# Altium schematic symbol library 687 1xx 149 022.SchLib: 22 symbols
Pins are listed as number, name and electrical type; pins without a type are passive.

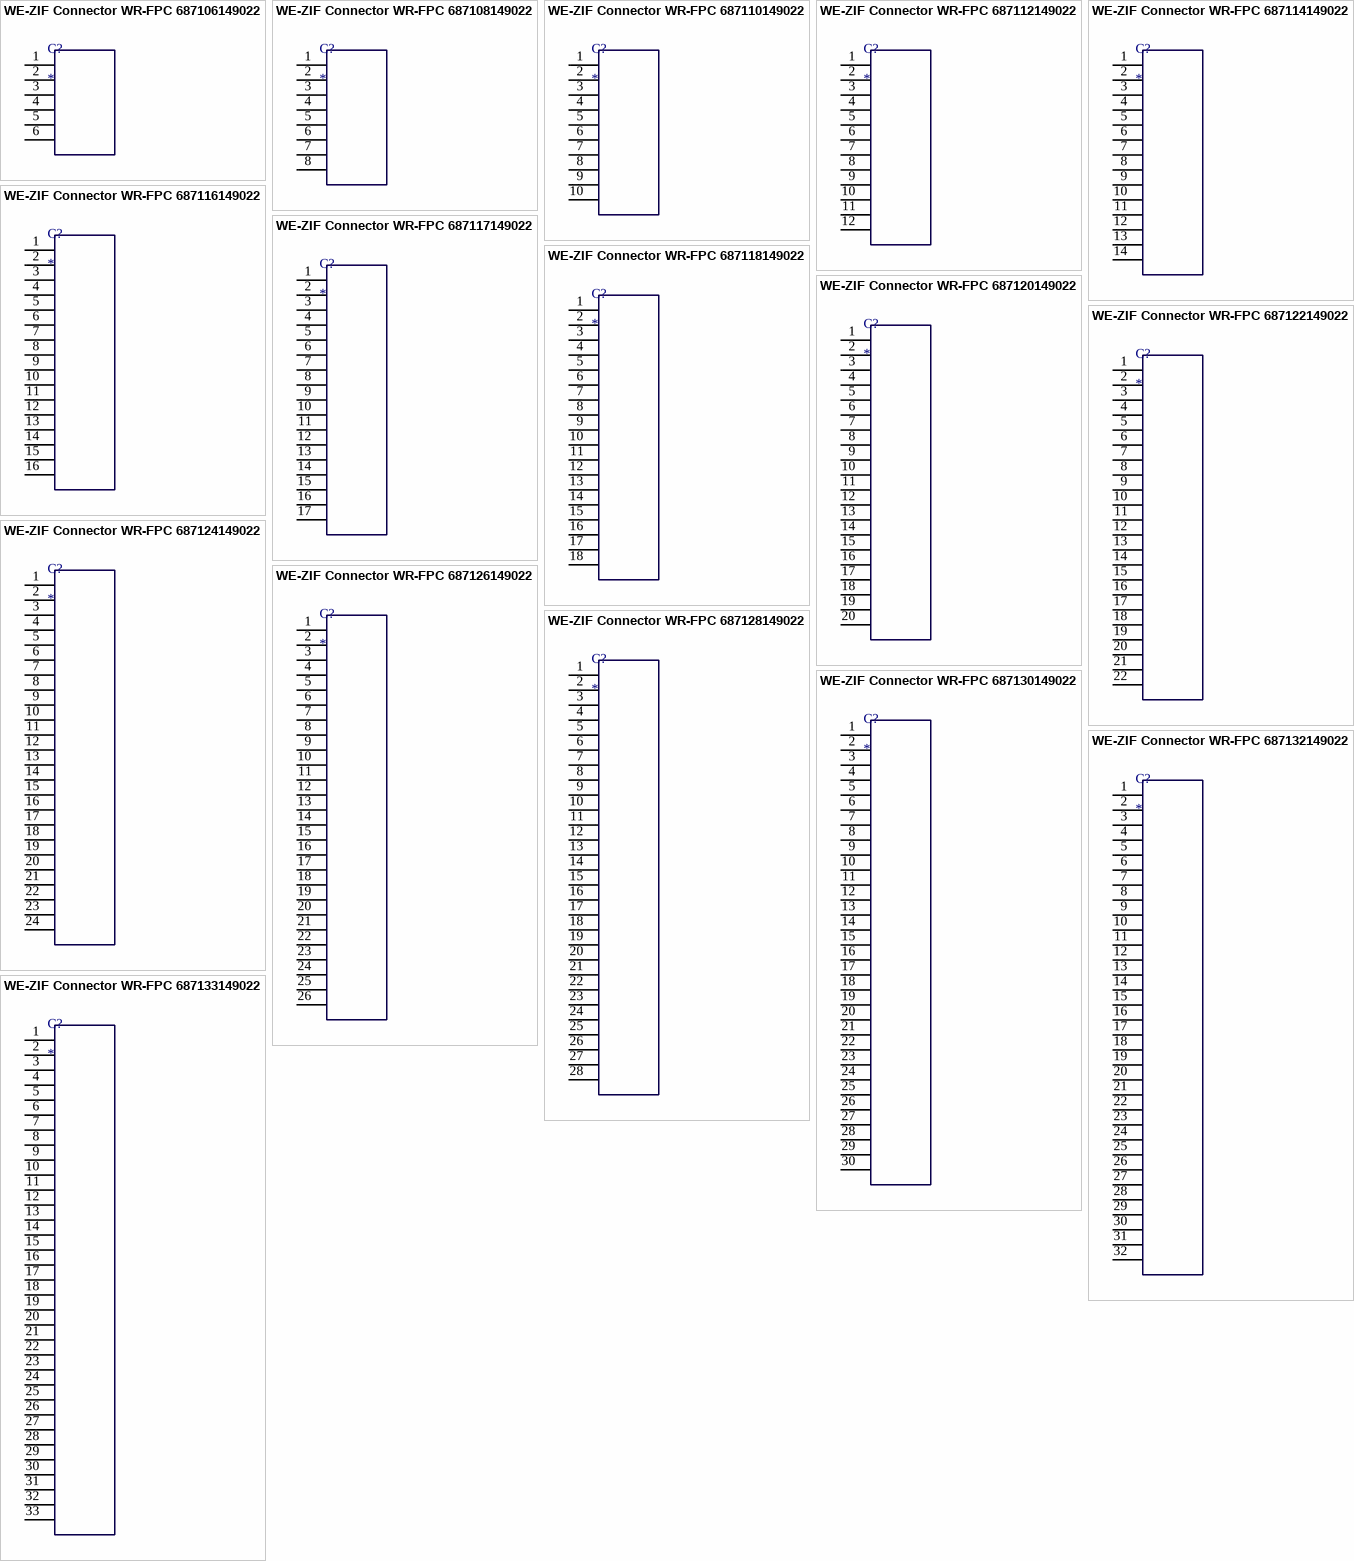
[diagram p0: symbols WE-ZIF Connector WR-FPC 687106149022 to WE-ZIF Connector WR-FPC 687133149022]

## WE-ZIF Connector WR-FPC 687106149022
designator C?
WR-FPC 0.50mm SMT Horiz. Bot. Contact Hinge type; Manufacturer: Würth Elektronik eiSos GmbH; partNo: 687106149022; ComponentLink1 Description: Manufacturer; ComponentLink2 Description: Datasheet; ComponentLink1URL: http://www.we-online.de; ComponentLink2URL: http://katalog.we-online.de/em/datasheet/6871xx149022.pdf; Created by: Karrer Zheng; Created Date: 10/9/2014
footprint 687106149022 (WR-FPC 0.50mm SMT Horiz. Bot. Contact Hinge type WR-FPC 0.50mm 6pins Hinge type SMT Horizontal Bottom Contact)
pins: 1  , 2  , 3  , 4  , 5  , 6  

## WE-ZIF Connector WR-FPC 687108149022
designator C?
WR-FPC 0.50mm SMT Horiz. Bot. Contact Hinge type; Manufacturer: Würth Elektronik eiSos GmbH; partNo: 687108149022; ComponentLink1 Description: Manufacturer; ComponentLink2 Description: Datasheet; ComponentLink1URL: http://www.we-online.de; ComponentLink2URL: http://katalog.we-online.de/em/datasheet/6871xx149022.pdf; Created by: Karrer Zheng; Created Date: 10/9/2014
footprint 687108149022
pins: 1  , 2  , 3  , 4  , 5  , 6  , 7  , 8  

## WE-ZIF Connector WR-FPC 687110149022
designator C?
WR-FPC 0.50mm SMT Horiz. Bot. Contact Hinge type; Manufacturer: Würth Elektronik eiSos GmbH; partNo: 687110149022; ComponentLink1 Description: Manufacturer; ComponentLink2 Description: Datasheet; ComponentLink1URL: http://www.we-online.de; ComponentLink2URL: http://katalog.we-online.de/em/datasheet/6871xx149022.pdf; Created by: Karrer Zheng; Created Date: 10/9/2014
footprint 687110149022
pins: 1  , 2  , 3  , 4  , 5  , 6  , 7  , 8  , 9  , 10  

## WE-ZIF Connector WR-FPC 687112149022
designator C?
WR-FPC 0.50mm SMT Horiz. Bot. Contact Hinge type; Manufacturer: Würth Elektronik eiSos GmbH; partNo: 687112149022; ComponentLink1 Description: Manufacturer; ComponentLink2 Description: Datasheet; ComponentLink1URL: http://www.we-online.de; ComponentLink2URL: http://katalog.we-online.de/em/datasheet/6871xx149022.pdf; Created by: Karrer Zheng; Created Date: 10/9/2014
footprint 687112149022
pins: 1  , 2  , 3  , 4  , 5  , 6  , 7  , 8  , 9  , 10  , 11  , 12  

## WE-ZIF Connector WR-FPC 687114149022
designator C?
WR-FPC 0.50mm SMT Horiz. Bot. Contact Hinge type; Manufacturer: Würth Elektronik eiSos GmbH; partNo: 687114149022; ComponentLink1 Description: Manufacturer; ComponentLink2 Description: Datasheet; ComponentLink1URL: http://www.we-online.de; ComponentLink2URL: http://katalog.we-online.de/em/datasheet/6871xx149022.pdf; Created by: Karrer Zheng; Created Date: 10/9/2014
footprint 687114149022
pins: 1  , 2  , 3  , 4  , 5  , 6  , 7  , 8  , 9  , 10  , 11  , 12  , 13  , 14  

## WE-ZIF Connector WR-FPC 687116149022
designator C?
WR-FPC 0.50mm SMT Horiz. Bot. Contact Hinge type; Manufacturer: Würth Elektronik eiSos GmbH; partNo: 687116149022; ComponentLink1 Description: Manufacturer; ComponentLink2 Description: Datasheet; ComponentLink1URL: http://www.we-online.de; ComponentLink2URL: http://katalog.we-online.de/em/datasheet/6871xx149022.pdf; Created by: Karrer Zheng; Created Date: 10/9/2014
footprint 687116149022
pins: 1  , 2  , 3  , 4  , 5  , 6  , 7  , 8  , 9  , 10  , 11  , 12  , 13  , 14  , 15  , 16  

## WE-ZIF Connector WR-FPC 687117149022
designator C?
WR-FPC 0.50mm SMT Horiz. Bot. Contact Hinge type; Manufacturer: Würth Elektronik eiSos GmbH; partNo: 687117149022; ComponentLink1 Description: Manufacturer; ComponentLink2 Description: Datasheet; ComponentLink1URL: http://www.we-online.de; ComponentLink2URL: http://katalog.we-online.de/em/datasheet/6871xx149022.pdf; Created by: Karrer Zheng; Created Date: 10/9/2014
footprint 687117149022
pins: 1  , 2  , 3  , 4  , 5  , 6  , 7  , 8  , 9  , 10  , 11  , 12  , 13  , 14  , 15  , 16  , 17  

## WE-ZIF Connector WR-FPC 687118149022
designator C?
WR-FPC 0.50mm SMT Horiz. Bot. Contact Hinge type; Manufacturer: Würth Elektronik eiSos GmbH; partNo: 687118149022; ComponentLink1 Description: Manufacturer; ComponentLink2 Description: Datasheet; ComponentLink1URL: http://www.we-online.de; ComponentLink2URL: http://katalog.we-online.de/em/datasheet/6871xx149022.pdf; Created by: Karrer Zheng; Created Date: 10/9/2014
footprint 687118149022
pins: 1  , 2  , 3  , 4  , 5  , 6  , 7  , 8  , 9  , 10  , 11  , 12  , 13  , 14  , 15  , 16  , 17  , 18  

## WE-ZIF Connector WR-FPC 687120149022
designator C?
WR-FPC 0.50mm SMT Horiz. Bot. Contact Hinge type; Manufacturer: Würth Elektronik eiSos GmbH; partNo: 687120149022; ComponentLink1 Description: Manufacturer; ComponentLink2 Description: Datasheet; ComponentLink1URL: http://www.we-online.de; ComponentLink2URL: http://katalog.we-online.de/em/datasheet/6871xx149022.pdf; Created by: Karrer Zheng; Created Date: 10/9/2014
footprint 687120149022
pins: 1  , 2  , 3  , 4  , 5  , 6  , 7  , 8  , 9  , 10  , 11  , 12  , 13  , 14  , 15  , 16  , 17  , 18  , 19  , 20  

## WE-ZIF Connector WR-FPC 687122149022
designator C?
WR-FPC 0.50mm SMT Horiz. Bot. Contact Hinge type; Manufacturer: Würth Elektronik eiSos GmbH; partNo: 687122149022; ComponentLink1 Description: Manufacturer; ComponentLink2 Description: Datasheet; ComponentLink1URL: http://www.we-online.de; ComponentLink2URL: http://katalog.we-online.de/em/datasheet/6871xx149022.pdf; Created by: Karrer Zheng; Created Date: 10/9/2014
footprint 687122149022
pins: 1  , 2  , 3  , 4  , 5  , 6  , 7  , 8  , 9  , 10  , 11  , 12  , 13  , 14  , 15  , 16  , 17  , 18  , 19  , 20  , 21  , 22  

## WE-ZIF Connector WR-FPC 687124149022
designator C?
WR-FPC 0.50mm SMT Horiz. Bot. Contact Hinge type; Manufacturer: Würth Elektronik eiSos GmbH; partNo: 687124149022; ComponentLink1 Description: Manufacturer; ComponentLink2 Description: Datasheet; ComponentLink1URL: http://www.we-online.de; ComponentLink2URL: http://katalog.we-online.de/em/datasheet/6871xx149022.pdf; Created by: Karrer Zheng; Created Date: 10/9/2014
footprint 687124149022
pins: 1  , 2  , 3  , 4  , 5  , 6  , 7  , 8  , 9  , 10  , 11  , 12  , 13  , 14  , 15  , 16  , 17  , 18  , 19  , 20  , 21  , 22  , 23  , 24  

## WE-ZIF Connector WR-FPC 687126149022
designator C?
WR-FPC 0.50mm SMT Horiz. Bot. Contact Hinge type; Manufacturer: Würth Elektronik eiSos GmbH; partNo: 687126149022; ComponentLink1 Description: Manufacturer; ComponentLink2 Description: Datasheet; ComponentLink1URL: http://www.we-online.de; ComponentLink2URL: http://katalog.we-online.de/em/datasheet/6871xx149022.pdf; Created by: Karrer Zheng; Created Date: 10/9/2014
footprint 687126149022
pins: 1  , 2  , 3  , 4  , 5  , 6  , 7  , 8  , 9  , 10  , 11  , 12  , 13  , 14  , 15  , 16  , 17  , 18  , 19  , 20  , 21  , 22  , 23  , 24  , 25  , 26  

## WE-ZIF Connector WR-FPC 687128149022
designator C?
WR-FPC 0.50mm SMT Horiz. Bot. Contact Hinge type; Manufacturer: Würth Elektronik eiSos GmbH; partNo: 687128149022; ComponentLink1 Description: Manufacturer; ComponentLink2 Description: Datasheet; ComponentLink1URL: http://www.we-online.de; ComponentLink2URL: http://katalog.we-online.de/em/datasheet/6871xx149022.pdf; Created by: Karrer Zheng; Created Date: 10/9/2014
footprint 687128149022
pins: 1  , 2  , 3  , 4  , 5  , 6  , 7  , 8  , 9  , 10  , 11  , 12  , 13  , 14  , 15  , 16  , 17  , 18  , 19  , 20  , 21  , 22  , 23  , 24  , 25  , 26  , 27  , 28  

## WE-ZIF Connector WR-FPC 687130149022
designator C?
WR-FPC 0.50mm SMT Horiz. Bot. Contact Hinge type; Manufacturer: Würth Elektronik eiSos GmbH; partNo: 687130149022; ComponentLink1 Description: Manufacturer; ComponentLink2 Description: Datasheet; ComponentLink1URL: http://www.we-online.de; ComponentLink2URL: http://katalog.we-online.de/em/datasheet/6871xx149022.pdf; Created by: Karrer Zheng; Created Date: 10/9/2014
footprint 687130149022
pins: 1  , 2  , 3  , 4  , 5  , 6  , 7  , 8  , 9  , 10  , 11  , 12  , 13  , 14  , 15  , 16  , 17  , 18  , 19  , 20  , 21  , 22  , 23  , 24  , 25  , 26  , 27  , 28  , 29  , 30  

## WE-ZIF Connector WR-FPC 687132149022
designator C?
WR-FPC 0.50mm SMT Horiz. Bot. Contact Hinge type; Manufacturer: Würth Elektronik eiSos GmbH; partNo: 687132149022; ComponentLink1 Description: Manufacturer; ComponentLink2 Description: Datasheet; ComponentLink1URL: http://www.we-online.de; ComponentLink2URL: http://katalog.we-online.de/em/datasheet/6871xx149022.pdf; Created by: Karrer Zheng; Created Date: 10/9/2014
footprint 687132149022
pins: 1  , 2  , 3  , 4  , 5  , 6  , 7  , 8  , 9  , 10  , 11  , 12  , 13  , 14  , 15  , 16  , 17  , 18  , 19  , 20  , 21  , 22  , 23  , 24  , 25  , 26  , 27  , 28  , 29  , 30  , 31  , 32  

## WE-ZIF Connector WR-FPC 687133149022
designator C?
WR-FPC 0.50mm SMT Horiz. Bot. Contact Hinge type; Manufacturer: Würth Elektronik eiSos GmbH; partNo: 687133149022; ComponentLink1 Description: Manufacturer; ComponentLink2 Description: Datasheet; ComponentLink1URL: http://www.we-online.de; ComponentLink2URL: http://katalog.we-online.de/em/datasheet/6871xx149022.pdf; Created by: Karrer Zheng; Created Date: 10/9/2014
footprint 687133149022
pins: 1  , 2  , 3  , 4  , 5  , 6  , 7  , 8  , 9  , 10  , 11  , 12  , 13  , 14  , 15  , 16  , 17  , 18  , 19  , 20  , 21  , 22  , 23  , 24  , 25  , 26  , 27  , 28  , 29  , 30  , 31  , 32  , 33  

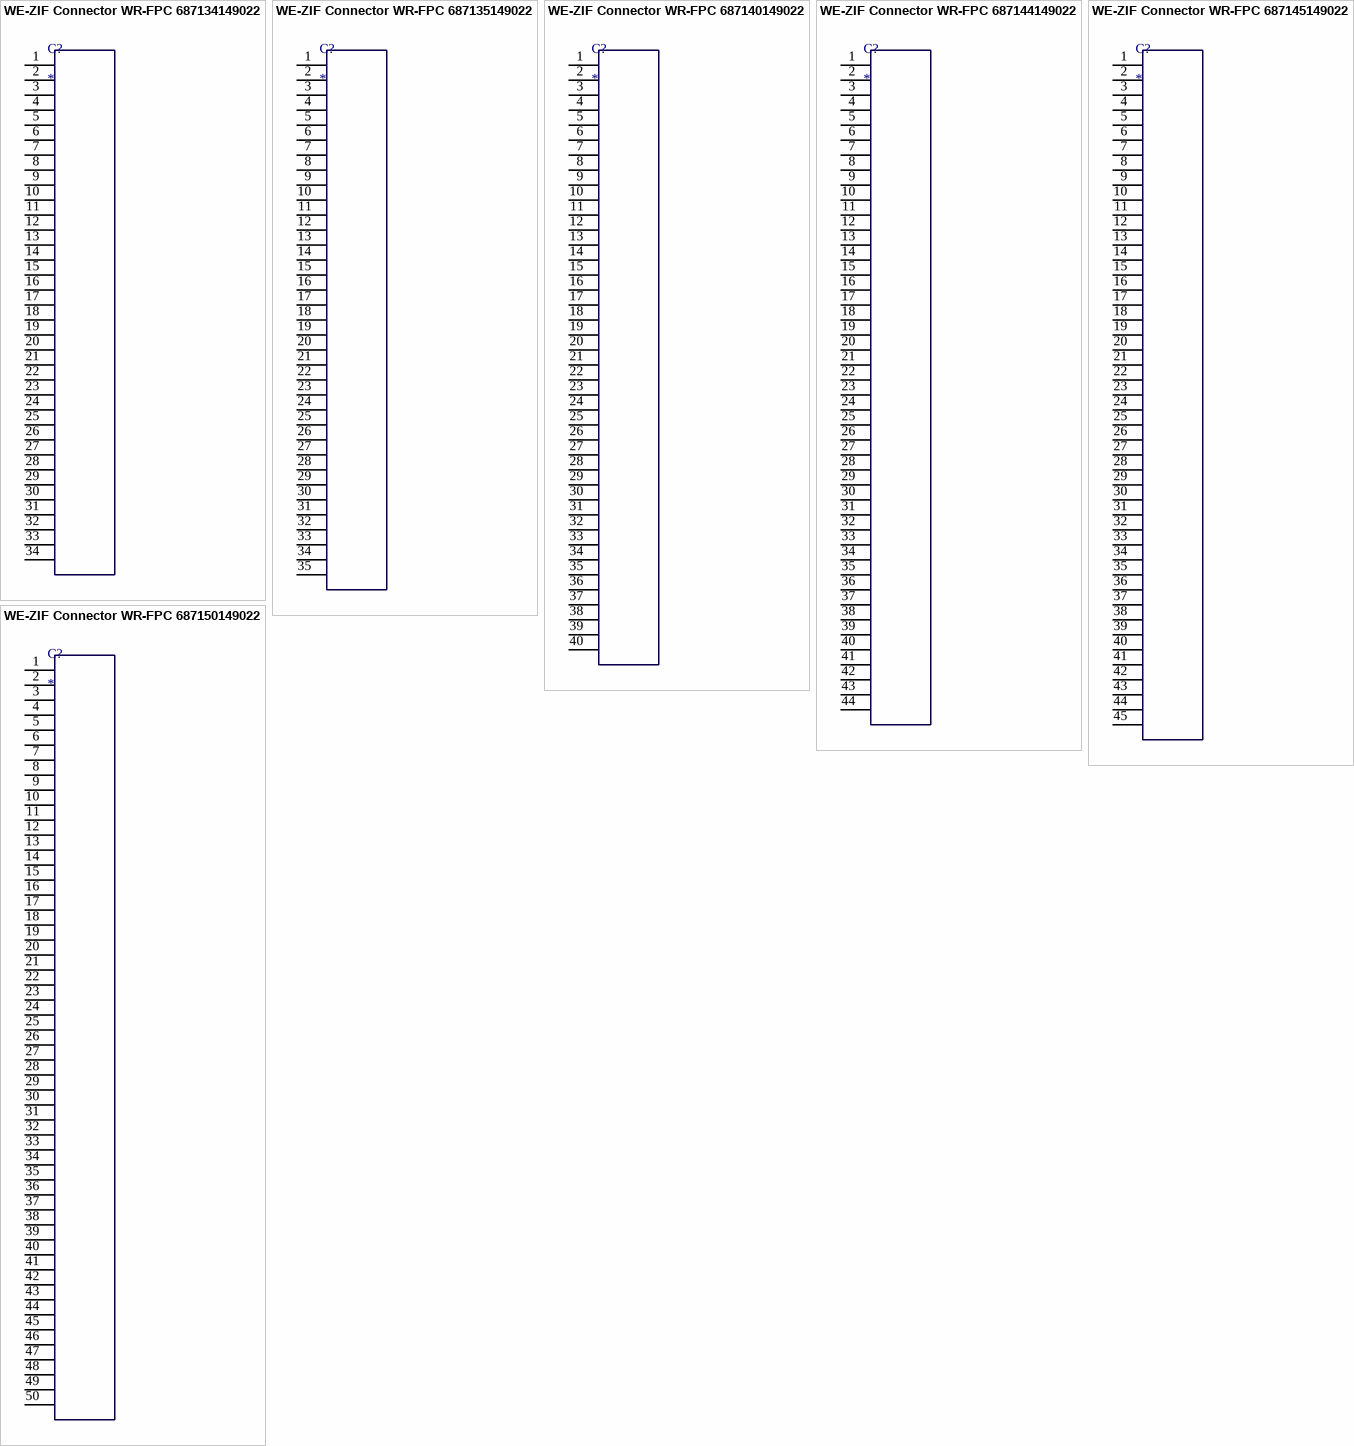
[diagram p1: symbols WE-ZIF Connector WR-FPC 687134149022 to WE-ZIF Connector WR-FPC 687150149022]

## WE-ZIF Connector WR-FPC 687134149022
designator C?
WR-FPC 0.50mm SMT Horiz. Bot. Contact Hinge type; Manufacturer: Würth Elektronik eiSos GmbH; partNo: 687134149022; ComponentLink1 Description: Manufacturer; ComponentLink2 Description: Datasheet; ComponentLink1URL: http://www.we-online.de; ComponentLink2URL: http://katalog.we-online.de/em/datasheet/6871xx149022.pdf; Created by: Karrer Zheng; Created Date: 10/9/2014
footprint 687134149022
pins: 1  , 2  , 3  , 4  , 5  , 6  , 7  , 8  , 9  , 10  , 11  , 12  , 13  , 14  , 15  , 16  , 17  , 18  , 19  , 20  , 21  , 22  , 23  , 24  , 25  , 26  , 27  , 28  , 29  , 30  , 31  , 32  , 33  , 34  

## WE-ZIF Connector WR-FPC 687135149022
designator C?
WR-FPC 0.50mm SMT Horiz. Bot. Contact Hinge type; Manufacturer: Würth Elektronik eiSos GmbH; partNo: 687135149022; ComponentLink1 Description: Manufacturer; ComponentLink2 Description: Datasheet; ComponentLink1URL: http://www.we-online.de; ComponentLink2URL: http://katalog.we-online.de/em/datasheet/6871xx149022.pdf; Created by: Karrer Zheng; Created Date: 10/9/2014
footprint 687135149022
pins: 1  , 2  , 3  , 4  , 5  , 6  , 7  , 8  , 9  , 10  , 11  , 12  , 13  , 14  , 15  , 16  , 17  , 18  , 19  , 20  , 21  , 22  , 23  , 24  , 25  , 26  , 27  , 28  , 29  , 30  , 31  , 32  , 33  , 34  , 35  

## WE-ZIF Connector WR-FPC 687140149022
designator C?
WR-FPC 0.50mm SMT Horiz. Bot. Contact Hinge type; Manufacturer: Würth Elektronik eiSos GmbH; partNo: 687140149022; ComponentLink1 Description: Manufacturer; ComponentLink2 Description: Datasheet; ComponentLink1URL: http://www.we-online.de; ComponentLink2URL: http://katalog.we-online.de/em/datasheet/6871xx149022.pdf; Created by: Karrer Zheng; Created Date: 10/9/2014
footprint 687140149022
pins: 1  , 2  , 3  , 4  , 5  , 6  , 7  , 8  , 9  , 10  , 11  , 12  , 13  , 14  , 15  , 16  , 17  , 18  , 19  , 20  , 21  , 22  , 23  , 24  , 25  , 26  , 27  , 28  , 29  , 30  , 31  , 32  , 33  , 34  , 35  , 36  , 37  , 38  , 39  , 40  

## WE-ZIF Connector WR-FPC 687144149022
designator C?
WR-FPC 0.50mm SMT Horiz. Bot. Contact Hinge type; Manufacturer: Würth Elektronik eiSos GmbH; partNo: 687144149022; ComponentLink1 Description: Manufacturer; ComponentLink2 Description: Datasheet; ComponentLink1URL: http://www.we-online.de; ComponentLink2URL: http://katalog.we-online.de/em/datasheet/6871xx149022.pdf; Created by: Karrer Zheng; Created Date: 10/9/2014
footprint 687144149022
pins: 1  , 2  , 3  , 4  , 5  , 6  , 7  , 8  , 9  , 10  , 11  , 12  , 13  , 14  , 15  , 16  , 17  , 18  , 19  , 20  , 21  , 22  , 23  , 24  , 25  , 26  , 27  , 28  , 29  , 30  , 31  , 32  , 33  , 34  , 35  , 36  , 37  , 38  , 39  , 40  , 41  , 42  , 43  , 44  

## WE-ZIF Connector WR-FPC 687145149022
designator C?
WR-FPC 0.50mm SMT Horiz. Bot. Contact Hinge type; Manufacturer: Würth Elektronik eiSos GmbH; partNo: 687145149022; ComponentLink1 Description: Manufacturer; ComponentLink2 Description: Datasheet; ComponentLink1URL: http://www.we-online.de; ComponentLink2URL: http://katalog.we-online.de/em/datasheet/6871xx149022.pdf; Created by: Karrer Zheng; Created Date: 10/9/2014
footprint 687145149022
pins: 1  , 2  , 3  , 4  , 5  , 6  , 7  , 8  , 9  , 10  , 11  , 12  , 13  , 14  , 15  , 16  , 17  , 18  , 19  , 20  , 21  , 22  , 23  , 24  , 25  , 26  , 27  , 28  , 29  , 30  , 31  , 32  , 33  , 34  , 35  , 36  , 37  , 38  , 39  , 40  , 41  , 42  , 43  , 44  , 45  

## WE-ZIF Connector WR-FPC 687150149022
designator C?
WR-FPC 0.50mm SMT Horiz. Bot. Contact Hinge type; Manufacturer: Würth Elektronik eiSos GmbH; partNo: 687150149022; ComponentLink1 Description: Manufacturer; ComponentLink2 Description: Datasheet; ComponentLink1URL: http://www.we-online.de; ComponentLink2URL: http://katalog.we-online.de/em/datasheet/6871xx149022.pdf; Created by: Karrer Zheng; Created Date: 10/9/2014
footprint 687150149022
pins: 1  , 2  , 3  , 4  , 5  , 6  , 7  , 8  , 9  , 10  , 11  , 12  , 13  , 14  , 15  , 16  , 17  , 18  , 19  , 20  , 21  , 22  , 23  , 24  , 25  , 26  , 27  , 28  , 29  , 30  , 31  , 32  , 33  , 34  , 35  , 36  , 37  , 38  , 39  , 40  , 41  , 42  , 43  , 44  , 45  , 46  , 47  , 48  , 49  , 50  